# Altium schematic symbol library MS561101BA03-50.SchLib: 1 symbol
Pins are listed as number, name and electrical type; pins without a type are passive.

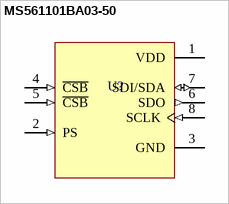
[diagram p0: symbol MS561101BA03-50]

## MS561101BA03-50
designator U?, comment OK  (value not drawn)
Barometric Pressure Sensor
pins: 1 VDD (power), 2 PS (in), 3 GND (power), 4 ~{CSB} (in), 5 ~{CSB} (in), 6 SDO (out), 7 SDI/SDA (io), 8 SCLK (in)